# EAGLE library part F15VPS (library AMP-5745781-4)
SUB-D
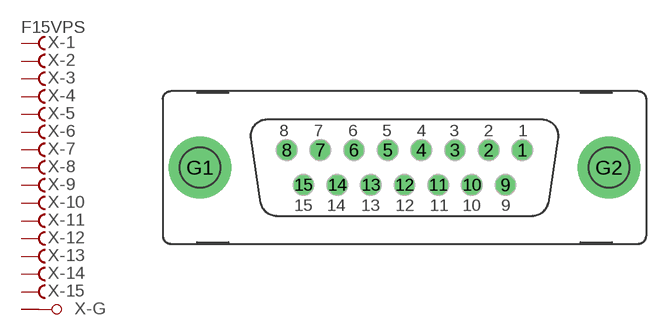
[diagram p20: symbol with the pads of F15VP; footprint F15VP]

Designator prefix X; gates -2=F -3=F -4=F -5=F -6=F -7=F -8=F -9=F -10=F -11=F -12=F -13=F -14=F -15=F -G=GND -1=FV

## F15VPS  [F15VP]
1  -1:F  pas
2  -2:F  pas
3  -3:F  pas
4  -4:F  pas
5  -5:F  pas
6  -6:F  pas
7  -7:F  pas
8  -8:F  pas
9  -9:F  pas
10  -10:F  pas
11  -11:F  pas
12  -12:F  pas
13  -13:F  pas
14  -14:F  pas
15  -15:F  pas
G1  -G:G1  pas
G2  -G:G2  pas

## Footprint F15VP (pad centres in mm)
SUB-D
drill 1.016 octagon: 1 9.601,1.422; 2 6.858,1.422; 3 4.115,1.422; 4 1.372,1.422; 5 -1.372,1.422; 6 -4.115,1.422; 7 -6.858,1.422; 8 -9.601,1.422; 9 8.23,-1.422; 10 5.486,-1.422; 11 2.743,-1.422; 12 0,-1.422; 13 -2.743,-1.422; 14 -5.486,-1.422; 15 -8.23,-1.422
drill 3.302 pad 5.08 round: G1 -16.662,0; G2 16.662,0